# Altium footprint library Crazy_PCB.PcbLib: 126 footprints (part 5 of 8)
Each footprint in its own frame and in the unit in brackets; x right, y up, seen from the top. Pads: shape width x height; smd on the part's side, far side on the other; paste and mask are expansions set on the pad; w line width, h text height; cw(c..) or ccw(c..) is an arc to the next point about the centre after c.
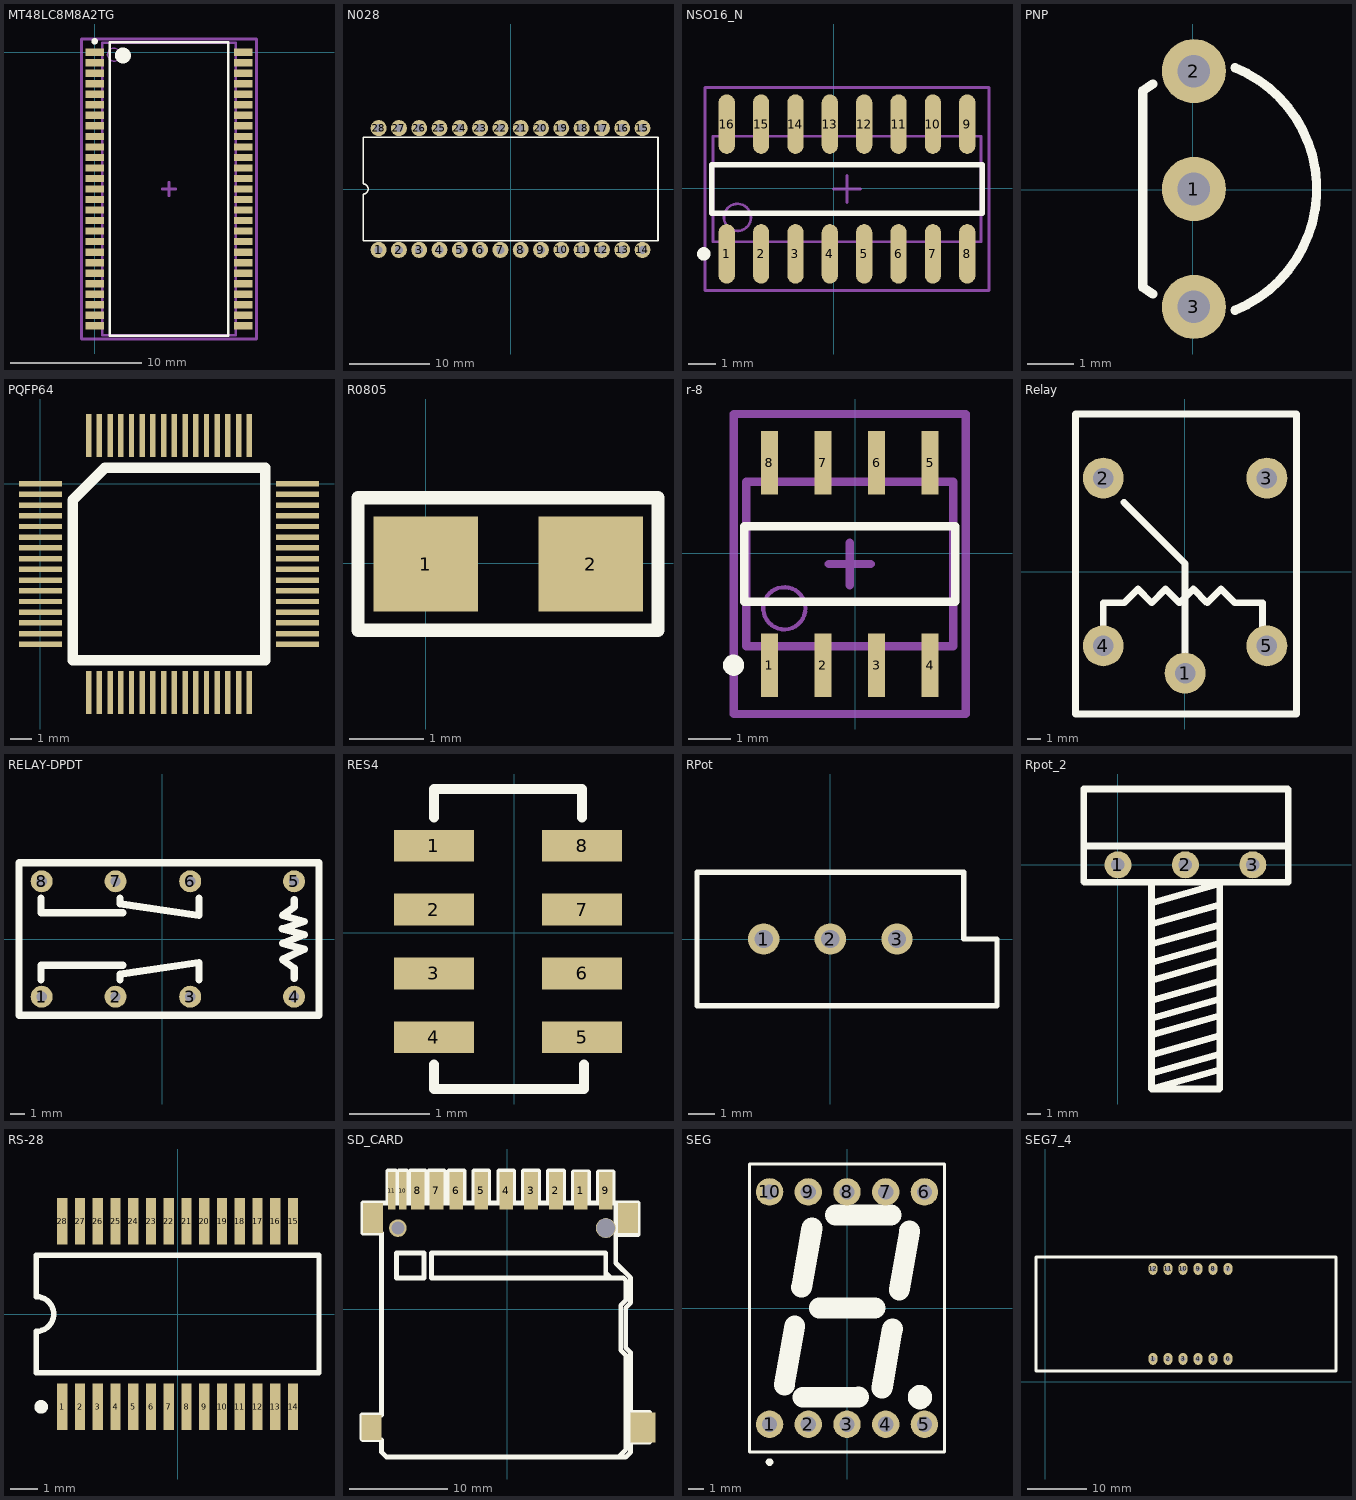
[diagram p4: the footprints below, top view; thin cyan lines are the x and y axes]

## MT48LC8M8A2TG [mm]
pads (54):
  rect 1.4x0.55 smd: 1(0,0) 2(0,-0.8) 3(0,-1.6) 4(0,-2.4) 5(0,-3.2) 6(0,-4) 7(0,-4.8) 8(0,-5.6) 9(0,-6.4) 10(0,-7.2) 11(0,-8) 12(0,-8.8) 13(0,-9.6) 14(0,-10.4) 15(0,-11.2) 16(0,-12) 17(0,-12.8) 18(0,-13.6) 19(0,-14.4) 20(0,-15.2) 21(0,-16) 22(0,-16.8) 23(0,-17.6) 24(0,-18.4) 25(0,-19.2) 26(0,-20) 27(0,-20.8) 28(11.3,-20.8) 29(11.3,-20) 30(11.3,-19.2) 31(11.3,-18.4) 32(11.3,-17.6) 33(11.3,-16.8) 34(11.3,-16) 35(11.3,-15.2) 36(11.3,-14.4) 37(11.3,-13.6) 38(11.3,-12.8) 39(11.3,-12) 40(11.3,-11.2) 41(11.3,-10.4) 42(11.3,-9.6) 43(11.3,-8.8) 44(11.3,-8) 45(11.3,-7.2) 46(11.3,-6.4) 47(11.3,-5.6) 48(11.3,-4.8) 49(11.3,-4) 50(11.3,-3.2) 51(11.3,-2.4) 52(11.3,-1.6) 53(11.3,-0.8) 54(11.3,0)
Top Overlay:
  circle w0.25: c0,0.825 r0.125
  circle w0.6: c2.15,-0.25 r0.3
  lines w0.2: 1.15,-21.55 1.15,0.75 10.15,0.75 10.15,-21.55 1.15,-21.55
Mechanical 13:
  circle w0.1: c1.47,-0.19 r0.5
  lines w0.2: 0.57,-21.51 0.57,0.71 10.73,0.71 10.73,-21.51 0.57,-21.51
Mechanical 15:
  lines w0.2: 5.15,-10.4 6.15,-10.4 ; 5.65,-10.9 5.65,-9.9 ; -1,-21.8 -1,1 12.3,1 12.3,-21.8 -1,-21.8
3D body: height 1.2, standoff 0, extent 0.57,-21.51 10.73,0.71

## N028 [mm] "DIP; 28 Leads; Row Spacing 15.24 mm; Pitch 2.54 mm"
height 5.08
pads (28):
  round 2 hole 1: 1(-16.51,-7.62) 2(-13.97,-7.62) 3(-11.43,-7.62) 4(-8.89,-7.62) 5(-6.35,-7.62) 6(-3.81,-7.62) 7(-1.27,-7.62) 8(1.27,-7.62) 9(3.81,-7.62) 10(6.35,-7.62) 11(8.89,-7.62) 12(11.43,-7.62) 13(13.97,-7.62) 14(16.51,-7.62) 15(16.51,7.62) 16(13.97,7.62) 17(11.43,7.62) 18(8.89,7.62) 19(6.35,7.62) 20(3.81,7.62) 21(1.27,7.62) 22(-1.27,7.62) 23(-3.81,7.62) 24(-6.35,7.62) 25(-8.89,7.62) 26(-11.43,7.62) 27(-13.97,7.62) 28(-16.51,7.62)
Top Overlay:
  lines w0.2: -18.45,-6.45 18.45,-6.45 18.45,6.45 -18.45,6.45 -18.45,0.635 cw(c-18.45,0) -18.45,-0.635 -18.45,-6.45

## NSO16_N [mm]
pads (16):
  oval 0.6x2.2 smd: 1(-3.957,-2.43) 2(-2.687,-2.43) 3(-1.417,-2.43) 4(-0.147,-2.43) 5(1.123,-2.43) 6(2.393,-2.43) 7(3.663,-2.43) 8(4.933,-2.43) 9(4.933,2.37) 10(3.663,2.37) 11(2.393,2.37) 12(1.123,2.37) 13(-0.147,2.37) 14(-1.417,2.37) 15(-2.687,2.37) 16(-3.957,2.37)
Top Overlay:
  circle w0.25: c-4.807,-2.43 r0.125
  lines w0.2: -4.512,-0.93 5.488,-0.93 5.488,0.87 -4.512,0.87 -4.512,-0.93
Mechanical 13:
  circle w0.1: c-3.562,-1.08 r0.5
  lines w0.1: -4.462,-1.98 5.438,-1.98 5.438,1.92 -4.462,1.92 -4.462,-1.98
Mechanical 15:
  lines w0.1: -0.012,-0.03 0.988,-0.03 ; 0.488,-0.53 0.488,0.47 ; -4.762,-3.78 5.738,-3.78 5.738,3.72 -4.762,3.72 -4.762,-3.78
3D body: height 1.75, standoff 0, extent -4.462,-1.98 5.438,1.92

## PNP [mm]
pads (3):
  round 1.38 hole 0.7: 1(0.025,0.013) 2(0.025,2.553) 3(0.025,-2.527)
Top Overlay:
  lines w0.2: -0.856,-2.25 -1.075,-2.104 -1.075,2.129 -0.856,2.275 ; 0.911,-2.597 ccw(c-0.144,0.013) 0.911,2.623

## PQFP64 [mm]
pads (64):
  rect 2x0.254 smd: 1(0,0) 2(0,-0.5) 3(0,-1) 4(0,-1.5) 5(0,-2) 6(0,-2.5) 7(0,-3) 8(0,-3.5) 9(0,-4) 10(0,-4.5) 11(0,-5) 12(0,-5.5) 13(0,-6) 14(0,-6.5) 15(0,-7) 16(0,-7.5) 33(12,-7.5) 34(12,-7) 35(12,-6.5) 36(12,-6) 37(12,-5.5) 38(12,-5) 39(12,-4.5) 40(12,-4) 41(12,-3.5) 42(12,-3) 43(12,-2.5) 44(12,-2) 45(12,-1.5) 46(12,-1) 47(12,-0.5) 48(12,0)
  rect 0.254x2 smd: 17(2.25,-9.75) 18(2.75,-9.75) 19(3.25,-9.75) 20(3.75,-9.75) 21(4.25,-9.75) 22(4.75,-9.75) 23(5.25,-9.75) 24(5.75,-9.75) 25(6.25,-9.75) 26(6.75,-9.75) 27(7.25,-9.75) 28(7.75,-9.75) 29(8.25,-9.75) 30(8.75,-9.75) 31(9.25,-9.75) 32(9.75,-9.75) 49(9.75,2.25) 50(9.25,2.25) 51(8.75,2.25) 52(8.25,2.25) 53(7.75,2.25) 54(7.25,2.25) 55(6.75,2.25) 56(6.25,2.25) 57(5.75,2.25) 58(5.25,2.25) 59(4.75,2.25) 60(4.25,2.25) 61(3.75,2.25) 62(3.25,2.25) 63(2.75,2.25) 64(2.25,2.25)
Top Overlay:
  lines w0.5: 1.508,-8.242 1.508,-0.766 3.016,0.742 10.492,0.742 10.492,-8.242 1.508,-8.242

## R0805 [mm]
height 6.35
pads (2):
  rect 1.4x1.27 smd: 1(-0.001,-0.007) 2(2.209,-0.007)
Top Overlay:
  lines w0.178: -0.91,0.872 -0.91,-0.896 3.11,-0.896 3.11,0.882 3.01,0.882 ; -0.91,0.882 3.009,0.882

## r-8 [mm]
height 1.75
pads (8):
  rect 0.4x1.5 smd: 1(-2.032,-2.654) 2(-0.762,-2.654) 3(0.508,-2.654) 4(1.778,-2.654) 5(1.778,2.146) 6(0.508,2.146) 7(-0.762,2.146) 8(-2.032,2.146)
Top Overlay:
  circle w0.25: c-2.882,-2.654 r0.125
  lines w0.2: -2.627,-1.154 2.373,-1.154 2.373,0.646 -2.627,0.646 -2.627,-1.154
Mechanical 13:
  circle w0.1: c-1.677,-1.304 r0.5
  lines w0.2: -2.577,-2.204 2.323,-2.204 2.323,1.696 -2.577,1.696 -2.577,-2.204
Mechanical 15:
  lines w0.2: -0.627,-0.254 0.373,-0.254 ; -0.127,-0.754 -0.127,0.246 ; -2.877,-3.81 2.623,-3.81 2.623,3.302 -2.877,3.302 -2.877,-3.81
3D body: height 1.75, standoff 0, extent -2.577,-2.204 2.323,1.696

## Relay [mm]
pads (5):
  round 3 hole 1.5: 1(0.031,-7.442) 2(-5.969,6.858) 3(6.031,6.858) 4(-5.969,-5.442) 5(6.031,-5.442)
Top Overlay:
  lines w0.5: -5.969,-5.442 -5.969,-2.286 -4.445,-2.286 -3.429,-1.27 -2.413,-2.286 -1.397,-1.27 -0.381,-2.286 0.635,-1.27 1.651,-2.286 2.667,-1.27 3.683,-2.286 5.715,-2.286 5.715,-5.25 ; -4.445,5.08 0.031,0.604 0.031,-7.442 ; -8.001,-10.442 8.199,-10.442 8.199,11.558 -8.001,11.558 -8.001,-10.442

## RELAY-DPDT [mm]
pads (8):
  round 1.5 hole 0.7: 1(-8.25,-3.94) 2(-3.2,-3.94) 3(1.9,-3.94) 4(9,-3.94) 5(9,3.94) 6(1.9,3.94) 7(-3.2,3.94) 8(-8.25,3.94)
Top Overlay:
  lines w0.5: -8.3,-2.8 -8.3,-1.8 -2.7,-1.8 ; -8.3,2.8 -8.3,1.8 -2.7,1.8 ; -2.9,-2.8 -2.9,-2.415 2.5,-1.6 2.5,-2.8 ; -2.9,2.8 -2.9,2.415 2.5,1.6 2.5,2.8 ; 9,-2.7 9,-2 8.2,-1.4 9.7,-0.7 8.2,-0.3 9.69,0.296 8.189,0.696 9.7,1.2 8.2,1.6 9,2.2 9,2.7 ; -9.8,-5.2 -9.8,5.2 10.7,5.2 10.7,-5.2 -9.8,-5.2

## RES4 [mm]
pads (8):
  rect 1x0.4 smd: 1(-1.009,1.093) 2(-1.009,0.293) 3(-1.009,-0.507) 4(-1.009,-1.307) 5(0.849,-1.307) 6(0.849,-0.507) 7(0.849,0.293) 8(0.849,1.093)
Top Overlay:
  lines w0.127: -1.009,-1.65 -1.009,-1.803 -1.009,-1.955 0.871,-1.955 0.871,-1.803 0.871,-1.65 ; -1.009,1.449 -1.009,1.626 -1.009,1.804 0.845,1.804 0.845,1.626 0.845,1.449

## RPot [mm] "Potentiometer; 3 Leads"
pads (3):
  round 1.2 hole 0.7: 1(-2.54,0) 2(0,0) 3(2.54,0)
Top Overlay:
  lines w0.2: -5.08,-2.54 6.35,-2.54 6.35,0 5.08,0 5.08,2.54 -5.08,2.54 -5.08,-2.54

## Rpot_2 [mm]
pads (3):
  round 2 hole 1: 1(0,0) 2(5,0) 3(10,0)
Top Overlay:
  lines w0.5: -2.47,1.4 12.51,1.4 ; 2.53,-15.46 7.507,-14.048 ; 2.53,-11.39 7.507,-9.978 ; 2.535,-16.617 7.53,-15.2 ; 2.535,-12.617 7.53,-11.2 ; 2.535,-8.547 7.53,-7.13 ; 2.546,-14.106 7.512,-12.697 ; 2.546,-10.036 7.512,-8.627 ; 2.55,-7.23 7.527,-5.818 ; 2.555,-4.387 7.55,-2.97 ; 2.563,-2.804 7.52,-1.397 ; 2.566,-5.876 7.532,-4.467 ; 7.52,-16.63 2.51,-16.63 2.49,-16.61 2.49,-1.32 2.52,-1.29 7.55,-1.29 7.55,-16.6 ; 12.59,5.62 -2.54,5.62 -2.54,-1.26 -2.51,-1.29 12.61,-1.29 ; 12.63,-1.28 12.63,5.61

## RS-28 [mm]
pads (28):
  rect 0.38x1.7 smd: 1(-4.225,-3.4) 2(-3.575,-3.4) 3(-2.925,-3.4) 4(-2.275,-3.4) 5(-1.625,-3.4) 6(-0.975,-3.4) 7(-0.325,-3.4) 8(0.325,-3.4) 9(0.975,-3.4) 10(1.625,-3.4) 11(2.275,-3.4) 12(2.925,-3.4) 13(3.575,-3.4) 14(4.225,-3.4) 15(4.225,3.4) 16(3.575,3.4) 17(2.925,3.4) 18(2.275,3.4) 19(1.625,3.4) 20(0.975,3.4) 21(0.325,3.4) 22(-0.325,3.4) 23(-0.975,3.4) 24(-1.625,3.4) 25(-2.275,3.4) 26(-2.925,3.4) 27(-3.575,3.4) 28(-4.225,3.4)
Top Overlay:
  circle w0.25: c-5,-3.4 r0.125
  lines w0.2: -5.175,-2.15 -5.175,-0.635 ccw(c-5.175,0) -5.175,0.635 -5.175,2.15 5.175,2.15 5.175,-2.15 -5.175,-2.15

## SD_CARD [mil]
pads (17):
  rect 55x150 smd: 1(295.19,475.42) 2(195.19,475.42) 3(95.19,475.42) 4(-4.81,475.42) 5(-104.81,475.42) 6(-204.81,475.42) 7(-284.81,475.42) 8(-359.81,475.42) 9(395.19,475.42)
  rect 30x150 smd: 10(-419.81,475.42) 11(-464.81,475.42)
  rect 80x100 smd: ""(-544.81,-474.58)
  rect 80x120 smd: ""(-539.81,365.42) ""(485.19,365.42)
  round 70.87 hole 52: ""(-439.81,325.42)
  round 80 hole 75: ""(395.19,325.42)
  rect 100x120 smd: ""(544.81,-475.42)
Top Overlay:
  lines w19.68: -479.81,425.42 -479.81,555.42 -449.81,555.42 -449.81,425.42 -504.81,425.42 -579.81,425.42 -579.81,305.42 -504.81,305.42 -504.81,-424.58 -584.81,-424.58 -584.81,-519.58 -579.81,-524.58 -504.81,-524.58 -504.81,-574.58 -484.81,-594.58 -474.81,-594.58 475.19,-594.58 495.19,-574.58 495.19,-174.58 475.19,-154.58 475.19,5.42 495.19,25.42 495.19,35.42 495.19,105.42 495.19,125.42 435.19,185.42 435.19,415.42 435.19,425.42 ; -454.81,425.42 435.19,425.42 ; -434.81,425.42 -434.81,555.42 -404.81,555.42 -404.81,425.42 ; -389.81,430.42 -389.81,555.42 -329.81,555.42 -329.81,430.42 ; -354.81,125.42 -334.81,125.42 -334.81,225.42 -444.81,225.42 -444.81,125.42 -344.81,125.42 ; -314.81,430.42 -314.81,555.42 -254.81,555.42 -254.81,430.42 ; -234.81,430.42 -234.81,555.42 -174.81,555.42 -174.81,430.42 ; -134.81,430.42 -134.81,555.42 -74.81,555.42 -74.81,430.42 ; -34.81,430.42 -34.81,555.42 25.19,555.42 25.19,430.42 ; 65.19,430.42 65.19,555.42 125.19,555.42 125.19,430.42 ; 165.19,430.42 165.19,555.42 225.19,555.42 225.19,430.42 ; 265.19,425.42 265.19,550.42 325.19,550.42 325.19,425.42 ; 365.19,425.42 365.19,550.42 425.19,550.42 425.19,425.42 ; 395.19,145.42 415.19,125.42 ; 435.19,300.42 525.19,300.42 525.19,425.42 435.19,425.42 ; 445.19,-594.58 475.19,-564.58 475.19,-194.58 475.19,-184.58 455.19,-164.58 455.19,15.42 475.19,35.42 475.19,115.42 465.19,125.42 395.19,125.42 ; 495.19,-534.58 570.19,-534.58 ; 495.19,-414.58 570.19,-414.58 ; 395.19,125.42 395.19,135.42 395.19,225.42 -304.81,225.42 -304.81,125.42 395.19,125.42

## SEG [mm] "LED, 7-Segment Display, 14.2 mm, RHD; 10 Leads; Row Space 15.24 mm; Pitch 2.54 mm"
height 8.25
pads (10):
  round 1.8 hole 1: 1(-5.08,-7.62) 2(-2.54,-7.62) 3(0,-7.62) 4(2.54,-7.62) 5(5.08,-7.62) 6(5.08,7.62) 7(2.54,7.62) 8(0,7.62) 9(-2.54,7.62) 10(-5.08,7.62)
Top Overlay:
  circle w0.25: c-5.08,-10.1 r0.125
  circle w1: c4.784,-5.842 r0.296
  lines w0.2: -6.4,-9.45 -6.4,9.45 6.4,9.45 6.4,-9.45 -6.4,-9.45
  lines w1.37: -4.108,-5.054 -3.425,-1.17 ; -2.974,1.368 -2.293,5.255 ; -2.888,-5.845 0.762,-5.842 ; -1.821,0 1.828,0 ; -0.762,6.096 2.887,6.096 ; 2.295,-5.256 2.98,-1.371 ; 3.427,1.169 4.11,5.058

## SEG7_4 [mil]
height 220.08
pads (12):
  oval 59.06x78.74 hole 32: 1(720,151) 2(820,151) 3(920,151) 4(1020,151) 5(1120,151) 6(1220,151) 7(1220,751) 8(1120,751) 9(1020,751) 10(920,751) 11(820,751) 12(720,751)
Top Overlay:
  lines w19.68: -60,70 -41,70 -40,71 380,71 1500,71 1920,71 1939,71 1940,70 1940,830 1939,831 1920,831 1500,831 380,831 -40,831 -59,831 -60,830 -60,70
Top Solder:
  lines w19.68: -45,70 -45,830 ; 1920,70 1920,830